# Altium schematic symbol library TDA2005R.SchLib: 1 symbol
Pins are listed as number, name and electrical type; pins without a type are passive.

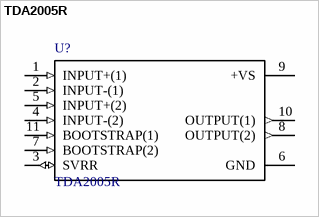
[diagram p0: symbol TDA2005R]

## TDA2005R
designator U?
Audio Amp Speaker 1-CH Mono/2-CH Stereo 22W Class-B Automotive 11-Pin_11+Tab_ MULTIWATT Tube; MF: STMicroelectronics; MP: TDA2005R; SnapEDA_Link: https://www.snapeda.com/parts/TDA2005R/STMicroelectronics/view-part/?ref=snap; Package: Multiwatt-11 STMicroelectronics; Digi-Key_Part_Number: *; Digi-Key_Purchase_URL: *; Value: *
footprint TO170P500X1990X2138-11P
pins: 1 INPUT+(1) (in), 2 INPUT-(1) (in), 3 SVRR (io), 4 INPUT-(2) (in), 5 INPUT+(2) (in), 6 GND (power), 7 BOOTSTRAP(2) (in), 8 OUTPUT(2) (out), 9 +VS (power), 10 OUTPUT(1) (out), 11 BOOTSTRAP(1) (in)